# EAGLE library part LED_RGB_6P (library wheat)
LED, RGB, 6-pin DIP kingbright AAF5060
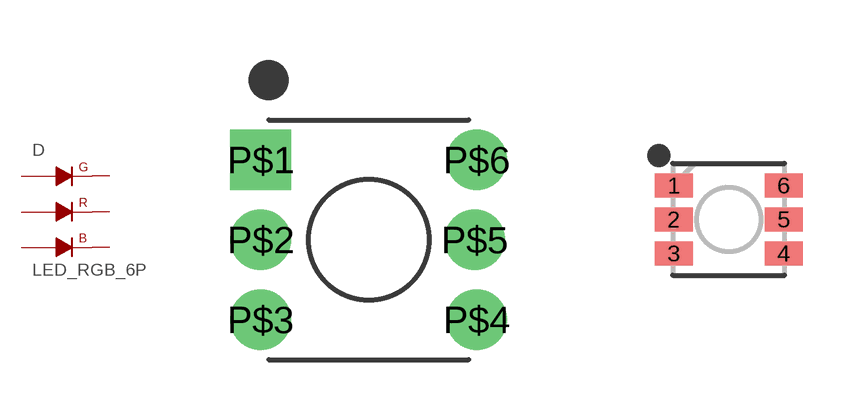
[diagram p125: symbol with the pads of DIP6_2MM; footprints DIP6_2MM, PLCC6_LED]

Designator prefix D

## LED_RGB_6P  [DIP6_2MM]
P$1  BK  pas
P$2  RK  pas
P$3  GK  pas
P$4  GA  pas
P$5  RA  pas
P$6  BA  pas

## LED_RGB_6P_PLCC  [PLCC6_LED]
1  BK  pas
2  RK  pas
3  GK  pas
4  GA  pas
5  RA  pas
6  BA  pas

## LED_RGB_6P_ROHM  [LED_RGB_ROHM]
1  BA  pas
2  RA  pas
3  GA  pas
4  GK  pas
5  RK  pas
6  BK  pas

## Footprint DIP6_2MM (pad centres in mm)
6-pin DIP LED package
drill 1.016 square: P$1 -2.7,2
drill 1.016: P$2 -2.7,0; P$3 -2.7,-2; P$4 2.7,-2; P$5 2.65,0; P$6 2.7,2

## Footprint PLCC6_LED (pad centres in mm)
smd 0.95 x 0.6: 1 -1.375,0.85; 2 -1.375,0; 3 -1.375,-0.85; 4 1.375,-0.85; 5 1.375,0; 6 1.375,0.85

## Footprint LED_RGB_ROHM (pad centres in mm)
smd 1.45 x 0.8: 1 -1.525,1.05; 3 -1.525,-1.05; 4 1.525,-1.05; 6 1.525,1.05
smd 1.45 x 0.6: 2 -1.525,0; 5 1.525,0